# Altium footprint library koruza-power-module-PcbLib.PcbLib: 2 footprints
Each footprint in its own frame and in the unit in brackets; x right, y up, seen from the top. Pads: shape width x height; smd on the part's side, far side on the other; paste and mask are expansions set on the pad; w line width, h text height; cw(c..) or ccw(c..) is an arc to the next point about the centre after c.
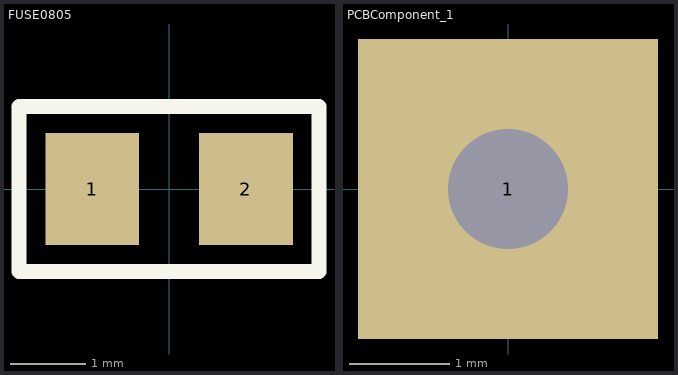
[diagram p0: the footprints below, top view; thin cyan lines are the x and y axes]

## FUSE0805 [mm]
pads (2):
  rect 1.25x1.5 smd: 1(-1.025,0) 2(1.025,0)
Top Overlay:
  lines w0.2: -2,-1.1 -2,1.1 2,1.1 2,-1.1 -2,-1.1
Mechanical 29:
  lines w0.1: -2,-1.1 -2,1.1 2,1.1 2,-1.1 -2,-1.1
  text ".Designator" at -1.3,-0.6 h1.2
3D body "68919.stp": height 1, standoff 0, extent -1.075,-0.675 1.075,0.675

## PCBComponent_1 [mm]
pads (1):
  rect 3x3 hole 1.2: 1(0,0)